# Altium footprint library VLS3012ET.PcbLib: 1 footprints
Each footprint in its own frame and in the unit in brackets; x right, y up, seen from the top. Pads: shape width x height; smd on the part's side, far side on the other; paste and mask are expansions set on the pad; w line width, h text height; cw(c..) or ccw(c..) is an arc to the next point about the centre after c.
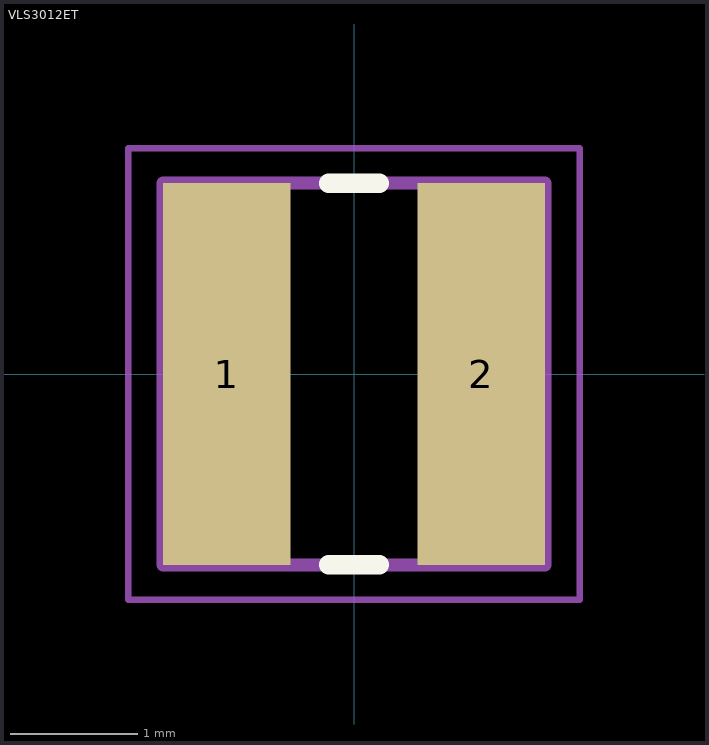
[diagram p0: the footprint, top view; thin cyan lines are the x and y axes]

## VLS3012ET [mm]
height 1.2
pads (2):
  rect 1x3 smd: 1(-1,0) 2(1,0)
Top Overlay:
  lines w0.152: -0.2,-1.5 0.2,-1.5 ; -0.2,1.5 0.2,1.5
Mechanical 13:
  lines w0.1: -1.5,-1.5 -1.5,1.5 1.5,1.5 1.5,-1.5 -1.5,-1.5
Mechanical 15:
  lines w0.05: -1.775,-1.775 1.775,-1.775 1.775,1.775 -1.775,1.775 -1.775,-1.775
3D body "User Library-nr3015.STEP": height 1.45, standoff -0.05, extent -1.5,-1.5 1.5,1.5